# EAGLE library part RFM69HCW (library Eagle CMR)
P/N: RFM69HCW-433S2 RFM69HCW module at 433MHz band, SMD Package P/N: RFM69HCW-315S2 RFM69HCW module at 315MHz band, SMD Package P/N: RFM69HCW-868S2 RFM69HCW module at 868MHz band, SMD Package P/N: RFM69HCW-915S2 RFM69HCW module at 915MHz band, SMD PackageV
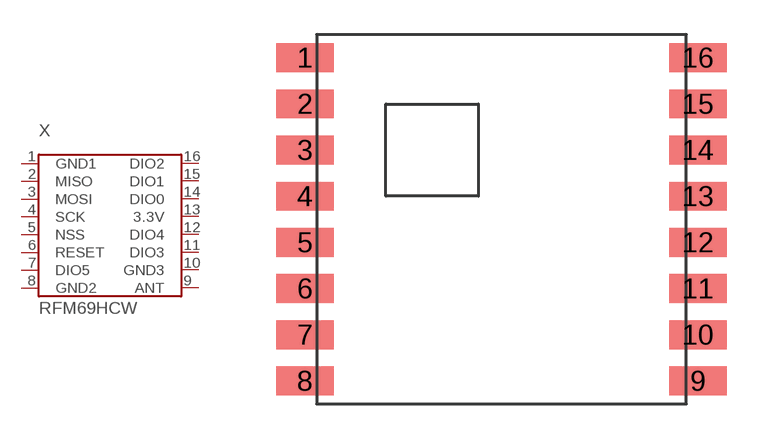
[diagram p3: symbol with the pads of RFM69HCW; footprint RFM69HCW]

Designator prefix X

## RFM69HCW  [RFM69HCW]
1  GND1
2  MISO
3  MOSI
4  SCK
5  NSS
6  RESET
7  DIO5
8  GND2
9  ANT
10  GND3
11  DIO3
12  DIO4
13  3.3V
14  DIO0
15  DIO1
16  DIO2

## Footprint RFM69HCW (pad centres in mm)
smd 2.5 x 1.25: 1 -8.5,7; 2 -8.5,5; 3 -8.5,3; 4 -8.5,1; 5 -8.5,-1; 6 -8.5,-3; 7 -8.5,-5; 8 -8.5,-7; 9 8.5,-7; 10 8.5,-5; 11 8.5,-3; 12 8.5,-1; 13 8.5,1; 14 8.5,3; 15 8.5,5; 16 8.5,7